# Altium footprint library QUTMS_OpAmps.PcbLib: 1 footprints
Each footprint in its own frame and in the unit in brackets; x right, y up, seen from the top. Pads: shape width x height; smd on the part's side, far side on the other; paste and mask are expansions set on the pad; w line width, h text height; cw(c..) or ccw(c..) is an arc to the next point about the centre after c.
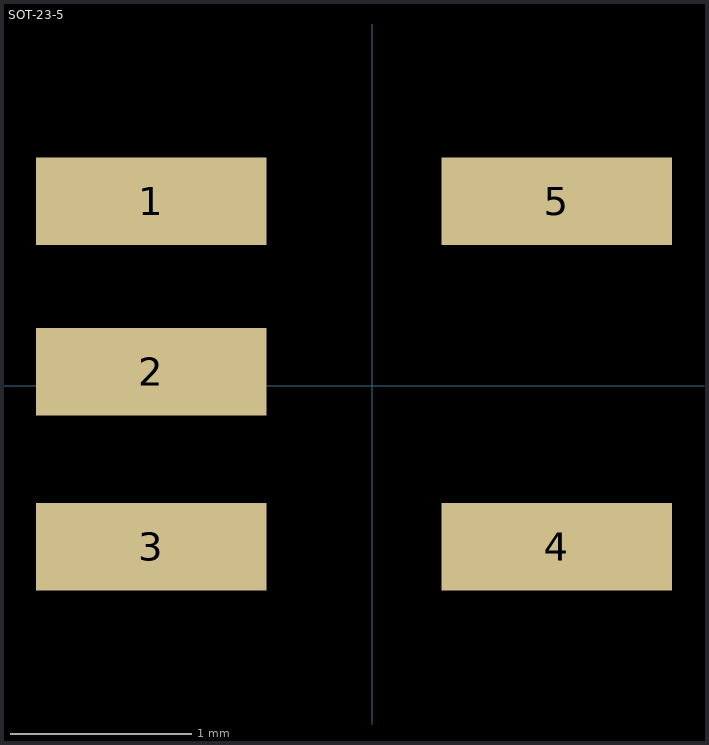
[diagram p0: the footprint, top view; thin cyan lines are the x and y axes]

## SOT-23-5 [mil]
pads (5):
  rect 50x19 smd: 1(-48,40) 2(-48,3) 3(-48,-35) 4(40,-35) 5(40,40)
3D body "SOT-23-5.stp": height 39.37, standoff 0, extent -47.24,-54.49 47.25,59.69